# Altium footprint library SSOP56.PcbLib: 1 footprints
Each footprint in its own frame and in the unit in brackets; x right, y up, seen from the top. Pads: shape width x height; smd on the part's side, far side on the other; paste and mask are expansions set on the pad; w line width, h text height; cw(c..) or ccw(c..) is an arc to the next point about the centre after c.
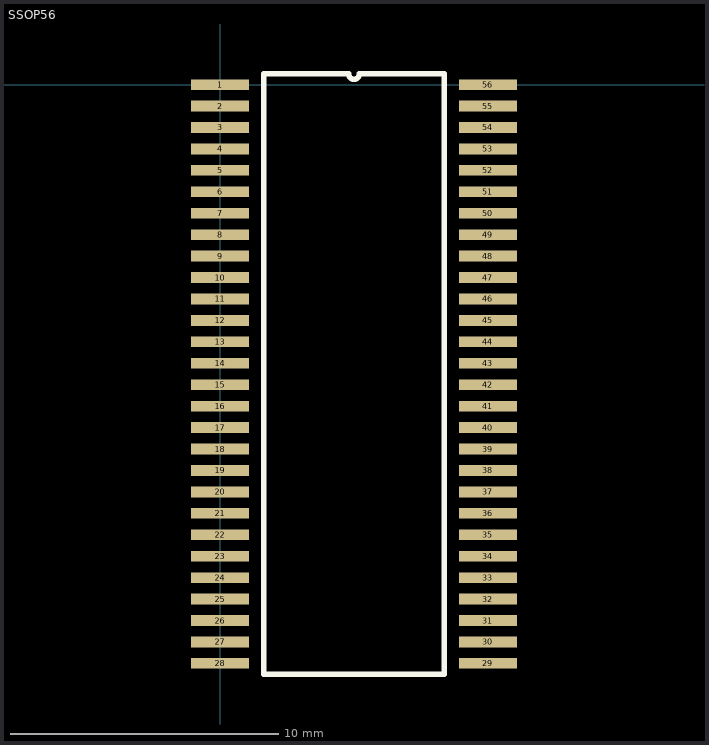
[diagram p0: the footprint, top view; thin cyan lines are the x and y axes]

## SSOP56 [mm]
pads (56):
  rect 2.15x0.4 smd: 1(0,0) 2(0,-0.8) 3(0,-1.6) 4(0,-2.4) 5(0,-3.2) 6(0,-4) 7(0,-4.8) 8(0,-5.6) 9(0,-6.4) 10(0,-7.2) 11(0,-8) 12(0,-8.8) 13(0,-9.6) 14(0,-10.4) 15(0,-11.2) 16(0,-12) 17(0,-12.8) 18(0,-13.6) 19(0,-14.4) 20(0,-15.2) 21(0,-16) 22(0,-16.8) 23(0,-17.6) 24(0,-18.4) 25(0,-19.2) 26(0,-20) 27(0,-20.8) 28(0,-21.6) 29(10,-21.6) 30(10,-20.8) 31(10,-20) 32(10,-19.2) 33(10,-18.4) 34(10,-17.6) 35(10,-16.8) 36(10,-16) 37(10,-15.2) 38(10,-14.4) 39(10,-13.6) 40(10,-12.8) 41(10,-12) 42(10,-11.2) 43(10,-10.4) 44(10,-9.6) 45(10,-8.8) 46(10,-8) 47(10,-7.2) 48(10,-6.4) 49(10,-5.6) 50(10,-4.8) 51(10,-4) 52(10,-3.2) 53(10,-2.4) 54(10,-1.6) 55(10,-0.8) 56(10,0)
Top Overlay:
  lines w0.2: 1.635,-22 1.635,0.4 4.8,0.4 ccw(c5,0.4) 5.2,0.4 8.365,0.4 8.365,-22 1.635,-22